# Altium footprint library 插针Lora模块.PcbLib: 1 footprints
Each footprint in its own frame and in the unit in brackets; x right, y up, seen from the top. Pads: shape width x height; smd on the part's side, far side on the other; paste and mask are expansions set on the pad; w line width, h text height; cw(c..) or ccw(c..) is an arc to the next point about the centre after c.
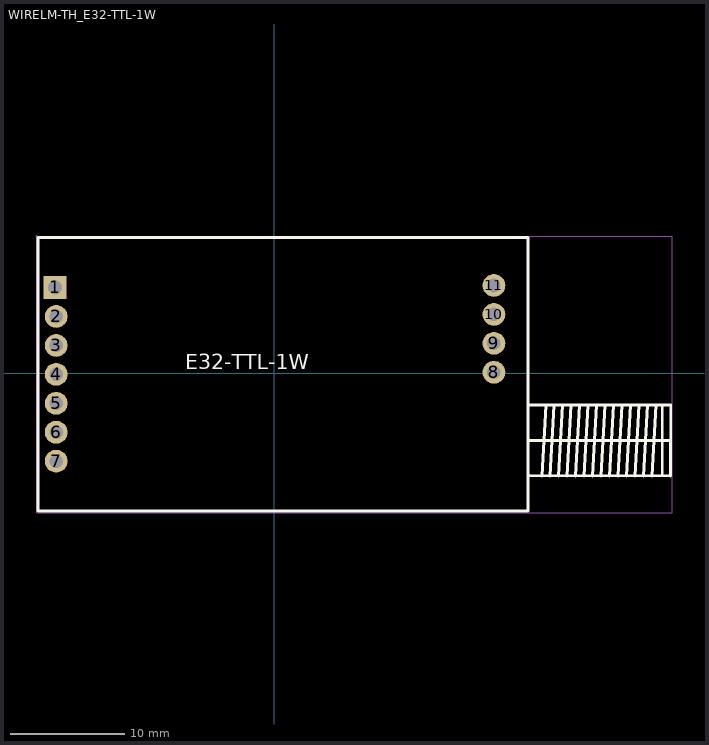
[diagram p0: the footprint, top view; thin cyan lines are the x and y axes]

## WIRELM-TH_E32-TTL-1W [mm]
pads (11):
  rect 2x2 hole 1.2 mask+0.051: 1(-19.25,7.53)
  round 2 hole 1.2 mask+0.051: 2(-19.148,4.99) 3(-19.148,2.45) 4(-19.148,-0.09) 5(-19.148,-2.63) 6(-19.148,-5.17) 7(-19.148,-7.71) 8(19.25,0.09) 9(19.25,2.63) 10(19.25,5.17) 11(19.25,7.71)
Top Overlay:
  lines w0.254: 22.335,-8.935 22.385,-8.985 34.755,-8.985 ; 22.335,-5.895 34.735,-5.895 ; 22.335,-2.815 22.365,-2.785 34.735,-2.785 ; 23.475,-8.995 23.835,-2.815 ; 24.171,-8.995 24.531,-2.815 ; 24.917,-8.995 25.277,-2.815 ; 25.662,-8.995 26.022,-2.815 ; 26.407,-8.995 26.767,-2.815 ; 27.153,-8.995 27.512,-2.815 ; 27.898,-8.995 28.258,-2.815 ; 28.643,-8.995 29.003,-2.815 ; 29.389,-8.995 29.748,-2.815 ; 30.134,-8.995 30.494,-2.815 ; 30.879,-8.995 31.239,-2.815 ; 31.624,-8.995 31.984,-2.815 ; 32.37,-8.995 32.73,-2.815 ; 33.115,-8.995 33.475,-2.815 ; 34.025,-8.965 34.025,-2.815 ; 34.754,-8.995 34.754,-5.895 ; 34.765,-5.885 34.765,-2.785 ; -20.75,-12.09 -20.75,11.91 22.25,11.91 22.25,-12.09 -20.75,-12.09
  text "E32-TTL-1W" at -7.833,0.356 h1.32
Mechanical 15:
  drawing of 16 lines, arcs and shapes, not listed
3D body "插针Lora模块.STEP": height 13.64, standoff 0.6, extent -20.623,-12.09 31.977,11.91